# Altium integrated library Linear Technology Charge_Pump.IntLib: 599 symbols (part 18 of 29)
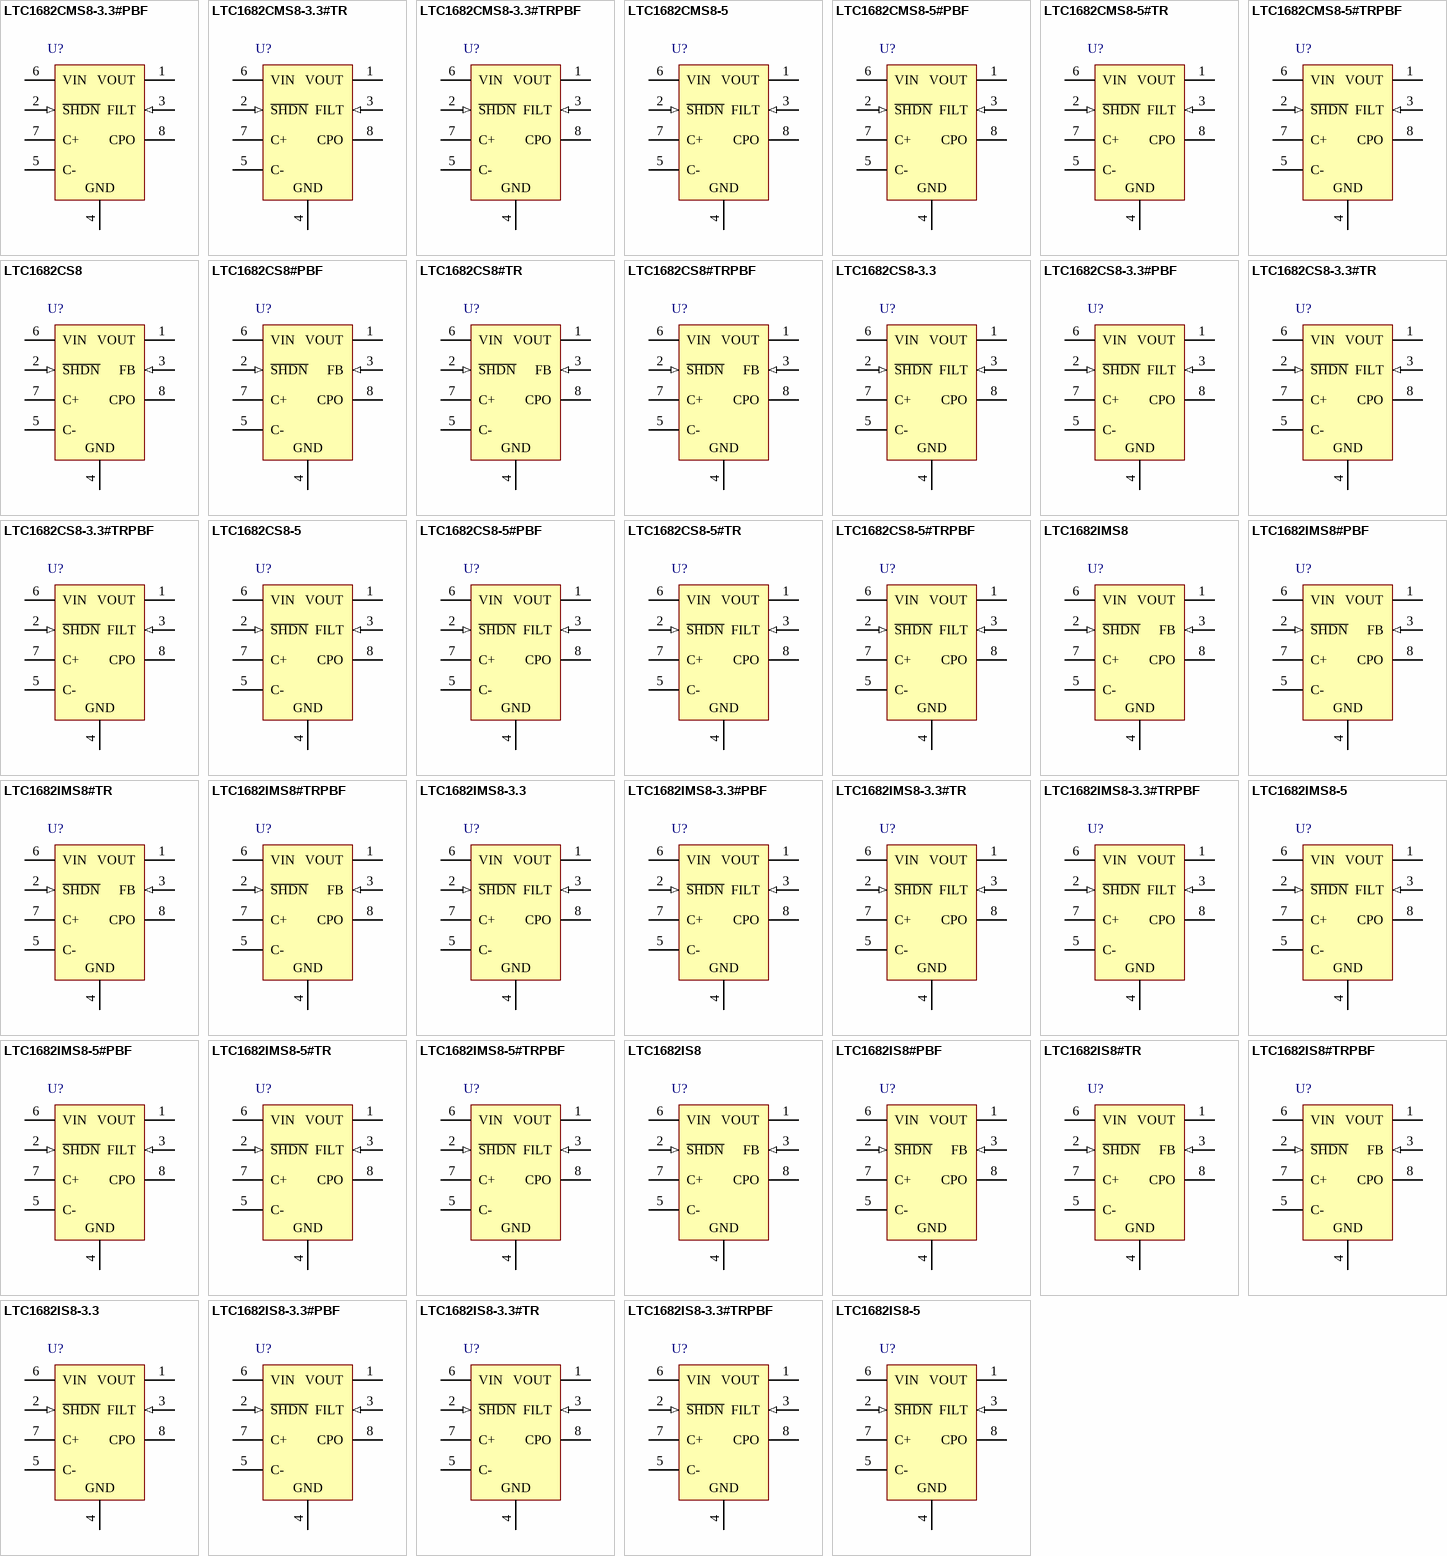
[diagram p33: symbols LTC1682CMS8-3.3#PBF to LTC1682IS8-5]

## LTC1682CS8#PBF
designator U?
Doubler Charge Pump with Low Noise Linear Regulator, 1.8 to 4.4 V Vin, Adjustable Vout, 8-pin SOIC (S8-8), 0 to 70 degC, Pb-Free; Manufacturer: Linear Technology; PartNumber: LTC1682CS8#PBF; Frequency(kHz): 550; Ishutdown(uA): 1; Isupply(mA): 0.15; Max Iout(mA): 50; Vin Max(V): 4.4; Vin Min(V): 1.8; Voutput: Adj; PackageVersion: Rev. G, 03/2012; PackageReference: S8-8; PackageDescription: 8-Pin Plastic Small Outline (Narrow .150 Inch), Body 4.9 x 3.9 mm, Pitch 1.27 mm; Supplier 1: Digi-Key; Supplier Part Number 1: LTC1682CS8#PBF-ND; Supplier 2: Farnell; Supplier Part Number 2: 1273902; RoHS: TRUE; Mounting Technology: Surface Mount; ComponentLink1Description: Manufacturer URL; ComponentLink1URL: http://www.linear.com/; ComponentLink2Description: Datasheet; ComponentLink2URL: http://cds.linear.com/docs/en/datasheet/168235fs.pdf; ComponentLink3Description: Package Specification; ComponentLink3URL: http://cds.linear.com/docs/en/packaging/05081610_G_SO8.pdf
footprint LT-S8-8_N (SOIC, 8-Leads, Body 5x4mm, Pitch 1.27mm, IPC Medium Density)
footprint LT-S8-8_L (SOIC, 8-Leads, Body 5x4mm, Pitch 1.27mm, IPC High Density)
footprint LT-S8-8_M (SOIC, 8-Leads, Body 5x4mm, Pitch 1.27mm, IPC Low Density)
pins: 1 VOUT (power) "Low Noise Regulated Output Voltage. VOUT should be bypassed with a >=2uF low ESR capacitor as close to the pin as possible for best performance. The VOUT range is 2.5V to 5.5V.", 2 ~{SHDN} (in) "Shutdown Input. A logic low on the S\H\D\N\ pin puts the part in shutdown mode. A logic high enables the part. To continuously enable the part connect S\H\D\N\ to VIN. When the part is in shutdown, VOUT will be connected to (See Datasheet)", 3 FB (in) "The voltage on this pin is compared to the internal reference voltage (1.235V) by the error amplifier to keep the output in regulation. An external resistor divider is required between VOUT and FB to adjust the output (See Datasheet)", 4 GND (power) "System Ground.", 5 C- "Flying Capacitor Negative Input.", 6 VIN (power) "Input Voltage, 1.8V to 4.4V. VIN should be bypassed with a >=2uF low ESR capacitor as close to the pin as possible for best performance. A minimum capacitance value of 0.1uF is required.", 7 C+ "Flying Capacitor Positive Input.", 8 CPO (power) "Unregulated Charge Pump Output Voltage. Approximately 1.95(VIN) at low loads. Bypass with a >=2uF low ESR capacitor. If a minimum VOUT enable time is required, the CPO capacitor should be 2xthe VOUT capacitor."

## LTC1682CS8#TR
designator U?
Doubler Charge Pump with Low Noise Linear Regulator, 1.8 to 4.4 V Vin, Adjustable Vout, 8-pin SOIC (S8-8), 0 to 70 degC, Tape and Reel; Manufacturer: Linear Technology; PartNumber: LTC1682CS8#TR; Frequency(kHz): 550; Ishutdown(uA): 1; Isupply(mA): 0.15; Max Iout(mA): 50; Vin Max(V): 4.4; Vin Min(V): 1.8; Voutput: Adj; PackageVersion: Rev. G, 03/2012; PackageReference: S8-8; PackageDescription: 8-Pin Plastic Small Outline (Narrow .150 Inch), Body 4.9 x 3.9 mm, Pitch 1.27 mm; Supplier 1: Digi-Key; Supplier Part Number 1: LTC1682CS8#TR-ND; Packing: Tape and Reel; RoHS: FALSE; Mounting Technology: Surface Mount; ComponentLink1Description: Manufacturer URL; ComponentLink1URL: http://www.linear.com/; ComponentLink2Description: Datasheet; ComponentLink2URL: http://cds.linear.com/docs/en/datasheet/168235fs.pdf; ComponentLink3Description: Package Specification; ComponentLink3URL: http://cds.linear.com/docs/en/packaging/05081610_G_SO8.pdf
footprint LT-S8-8_N (SOIC, 8-Leads, Body 5x4mm, Pitch 1.27mm, IPC Medium Density)
footprint LT-S8-8_L (SOIC, 8-Leads, Body 5x4mm, Pitch 1.27mm, IPC High Density)
footprint LT-S8-8_M (SOIC, 8-Leads, Body 5x4mm, Pitch 1.27mm, IPC Low Density)
pins: 1 VOUT (power) "Low Noise Regulated Output Voltage. VOUT should be bypassed with a >=2uF low ESR capacitor as close to the pin as possible for best performance. The VOUT range is 2.5V to 5.5V.", 2 ~{SHDN} (in) "Shutdown Input. A logic low on the S\H\D\N\ pin puts the part in shutdown mode. A logic high enables the part. To continuously enable the part connect S\H\D\N\ to VIN. When the part is in shutdown, VOUT will be connected to (See Datasheet)", 3 FB (in) "The voltage on this pin is compared to the internal reference voltage (1.235V) by the error amplifier to keep the output in regulation. An external resistor divider is required between VOUT and FB to adjust the output (See Datasheet)", 4 GND (power) "System Ground.", 5 C- "Flying Capacitor Negative Input.", 6 VIN (power) "Input Voltage, 1.8V to 4.4V. VIN should be bypassed with a >=2uF low ESR capacitor as close to the pin as possible for best performance. A minimum capacitance value of 0.1uF is required.", 7 C+ "Flying Capacitor Positive Input.", 8 CPO (power) "Unregulated Charge Pump Output Voltage. Approximately 1.95(VIN) at low loads. Bypass with a >=2uF low ESR capacitor. If a minimum VOUT enable time is required, the CPO capacitor should be 2xthe VOUT capacitor."

## LTC1682CS8#TRPBF
designator U?
Doubler Charge Pump with Low Noise Linear Regulator, 1.8 to 4.4 V Vin, Adjustable Vout, 8-pin SOIC (S8-8), 0 to 70 degC, Pb-Free, Tape and Reel; Manufacturer: Linear Technology; PartNumber: LTC1682CS8#TRPBF; Frequency(kHz): 550; Ishutdown(uA): 1; Isupply(mA): 0.15; Max Iout(mA): 50; Vin Max(V): 4.4; Vin Min(V): 1.8; Voutput: Adj; PackageVersion: Rev. G, 03/2012; PackageReference: S8-8; PackageDescription: 8-Pin Plastic Small Outline (Narrow .150 Inch), Body 4.9 x 3.9 mm, Pitch 1.27 mm; Supplier 1: Digi-Key; Supplier Part Number 1: LTC1682CS8#TRPBF-ND; Packing: Tape and Reel; RoHS: TRUE; Mounting Technology: Surface Mount; ComponentLink1Description: Manufacturer URL; ComponentLink1URL: http://www.linear.com/; ComponentLink2Description: Datasheet; ComponentLink2URL: http://cds.linear.com/docs/en/datasheet/168235fs.pdf; ComponentLink3Description: Package Specification; ComponentLink3URL: http://cds.linear.com/docs/en/packaging/05081610_G_SO8.pdf
footprint LT-S8-8_N (SOIC, 8-Leads, Body 5x4mm, Pitch 1.27mm, IPC Medium Density)
footprint LT-S8-8_L (SOIC, 8-Leads, Body 5x4mm, Pitch 1.27mm, IPC High Density)
footprint LT-S8-8_M (SOIC, 8-Leads, Body 5x4mm, Pitch 1.27mm, IPC Low Density)
pins: 1 VOUT (power) "Low Noise Regulated Output Voltage. VOUT should be bypassed with a >=2uF low ESR capacitor as close to the pin as possible for best performance. The VOUT range is 2.5V to 5.5V.", 2 ~{SHDN} (in) "Shutdown Input. A logic low on the S\H\D\N\ pin puts the part in shutdown mode. A logic high enables the part. To continuously enable the part connect S\H\D\N\ to VIN. When the part is in shutdown, VOUT will be connected to (See Datasheet)", 3 FB (in) "The voltage on this pin is compared to the internal reference voltage (1.235V) by the error amplifier to keep the output in regulation. An external resistor divider is required between VOUT and FB to adjust the output (See Datasheet)", 4 GND (power) "System Ground.", 5 C- "Flying Capacitor Negative Input.", 6 VIN (power) "Input Voltage, 1.8V to 4.4V. VIN should be bypassed with a >=2uF low ESR capacitor as close to the pin as possible for best performance. A minimum capacitance value of 0.1uF is required.", 7 C+ "Flying Capacitor Positive Input.", 8 CPO (power) "Unregulated Charge Pump Output Voltage. Approximately 1.95(VIN) at low loads. Bypass with a >=2uF low ESR capacitor. If a minimum VOUT enable time is required, the CPO capacitor should be 2xthe VOUT capacitor."

## LTC1682CS8-3.3
designator U?
Doubler Charge Pump with Low Noise Linear Regulator, 2 to 4.4 V Vin, 3.3 V Vout, 8-pin SOIC (S8-8), 0 to 70 degC; Manufacturer: Linear Technology; PartNumber: LTC1682CS8-3.3; Frequency(kHz): 550; Ishutdown(uA): 1; Isupply(mA): 0.15; Max Iout(mA): 50; Vin Max(V): 4.4; Vin Min(V): 2; Voutput: 3.3V; PackageVersion: Rev. G, 03/2012; PackageReference: S8-8; PackageDescription: 8-Pin Plastic Small Outline (Narrow .150 Inch), Body 4.9 x 3.9 mm, Pitch 1.27 mm; Supplier 1: Digi-Key; Supplier Part Number 1: LTC1682CS8-3.3-ND; RoHS: FALSE; Mounting Technology: Surface Mount; ComponentLink1Description: Manufacturer URL; ComponentLink1URL: http://www.linear.com/; ComponentLink2Description: Datasheet; ComponentLink2URL: http://cds.linear.com/docs/en/datasheet/168235fs.pdf; ComponentLink3Description: Package Specification; ComponentLink3URL: http://cds.linear.com/docs/en/packaging/05081610_G_SO8.pdf
footprint LT-S8-8_N (SOIC, 8-Leads, Body 5x4mm, Pitch 1.27mm, IPC Medium Density)
footprint LT-S8-8_L (SOIC, 8-Leads, Body 5x4mm, Pitch 1.27mm, IPC High Density)
footprint LT-S8-8_M (SOIC, 8-Leads, Body 5x4mm, Pitch 1.27mm, IPC Low Density)
pins: 1 VOUT (power) "Low Noise Regulated Output Voltage. VOUT should be bypassed with a >=2uF low ESR capacitor as close to the pin as possible for best performance. The VOUT range is 2.5V to 5.5V.", 2 ~{SHDN} (in) "Shutdown Input. A logic low on the S\H\D\N\ pin puts the part in shutdown mode. A logic high enables the part. To continuously enable the part connect S\H\D\N\ to VIN. When the part is in shutdown, VOUT will be connected to (See Datasheet)", 3 FILT (in) "This pin is used to filter the internal voltage reference. Typically a 1nF capacitor is connected from FILT to ground.", 4 GND (power) "System Ground.", 5 C- "Flying Capacitor Negative Input.", 6 VIN (power) "Input Voltage, 1.8V to 4.4V. VIN should be bypassed with a >=2uF low ESR capacitor as close to the pin as possible for best performance. A minimum capacitance value of 0.1uF is required.", 7 C+ "Flying Capacitor Positive Input.", 8 CPO (power) "Unregulated Charge Pump Output Voltage. Approximately 1.95(VIN) at low loads. Bypass with a >=2uF low ESR capacitor. If a minimum VOUT enable time is required, the CPO capacitor should be 2xthe VOUT capacitor."

## LTC1682CS8-3.3#PBF
designator U?
Doubler Charge Pump with Low Noise Linear Regulator, 2 to 4.4 V Vin, 3.3 V Vout, 8-pin SOIC (S8-8), 0 to 70 degC, Pb-Free; Manufacturer: Linear Technology; PartNumber: LTC1682CS8-3.3#PBF; Frequency(kHz): 550; Ishutdown(uA): 1; Isupply(mA): 0.15; Max Iout(mA): 50; Vin Max(V): 4.4; Vin Min(V): 2; Voutput: 3.3V; PackageVersion: Rev. G, 03/2012; PackageReference: S8-8; PackageDescription: 8-Pin Plastic Small Outline (Narrow .150 Inch), Body 4.9 x 3.9 mm, Pitch 1.27 mm; Supplier 1: Digi-Key; Supplier Part Number 1: LTC1682CS8-3.3#PBF-ND; RoHS: TRUE; Mounting Technology: Surface Mount; ComponentLink1Description: Manufacturer URL; ComponentLink1URL: http://www.linear.com/; ComponentLink2Description: Datasheet; ComponentLink2URL: http://cds.linear.com/docs/en/datasheet/168235fs.pdf; ComponentLink3Description: Package Specification; ComponentLink3URL: http://cds.linear.com/docs/en/packaging/05081610_G_SO8.pdf
footprint LT-S8-8_N (SOIC, 8-Leads, Body 5x4mm, Pitch 1.27mm, IPC Medium Density)
footprint LT-S8-8_L (SOIC, 8-Leads, Body 5x4mm, Pitch 1.27mm, IPC High Density)
footprint LT-S8-8_M (SOIC, 8-Leads, Body 5x4mm, Pitch 1.27mm, IPC Low Density)
pins: 1 VOUT (power) "Low Noise Regulated Output Voltage. VOUT should be bypassed with a >=2uF low ESR capacitor as close to the pin as possible for best performance. The VOUT range is 2.5V to 5.5V.", 2 ~{SHDN} (in) "Shutdown Input. A logic low on the S\H\D\N\ pin puts the part in shutdown mode. A logic high enables the part. To continuously enable the part connect S\H\D\N\ to VIN. When the part is in shutdown, VOUT will be connected to (See Datasheet)", 3 FILT (in) "This pin is used to filter the internal voltage reference. Typically a 1nF capacitor is connected from FILT to ground.", 4 GND (power) "System Ground.", 5 C- "Flying Capacitor Negative Input.", 6 VIN (power) "Input Voltage, 1.8V to 4.4V. VIN should be bypassed with a >=2uF low ESR capacitor as close to the pin as possible for best performance. A minimum capacitance value of 0.1uF is required.", 7 C+ "Flying Capacitor Positive Input.", 8 CPO (power) "Unregulated Charge Pump Output Voltage. Approximately 1.95(VIN) at low loads. Bypass with a >=2uF low ESR capacitor. If a minimum VOUT enable time is required, the CPO capacitor should be 2xthe VOUT capacitor."

## LTC1682CS8-3.3#TR
designator U?
Doubler Charge Pump with Low Noise Linear Regulator, 2 to 4.4 V Vin, 3.3 V Vout, 8-pin SOIC (S8-8), 0 to 70 degC, Tape and Reel; Manufacturer: Linear Technology; PartNumber: LTC1682CS8-3.3#TR; Frequency(kHz): 550; Ishutdown(uA): 1; Isupply(mA): 0.15; Max Iout(mA): 50; Vin Max(V): 4.4; Vin Min(V): 2; Voutput: 3.3V; PackageVersion: Rev. G, 03/2012; PackageReference: S8-8; PackageDescription: 8-Pin Plastic Small Outline (Narrow .150 Inch), Body 4.9 x 3.9 mm, Pitch 1.27 mm; Supplier 1: Digi-Key; Supplier Part Number 1: LTC1682CS8-3.3#TR-ND; Packing: Tape and Reel; RoHS: FALSE; Mounting Technology: Surface Mount; ComponentLink1Description: Manufacturer URL; ComponentLink1URL: http://www.linear.com/; ComponentLink2Description: Datasheet; ComponentLink2URL: http://cds.linear.com/docs/en/datasheet/168235fs.pdf; ComponentLink3Description: Package Specification; ComponentLink3URL: http://cds.linear.com/docs/en/packaging/05081610_G_SO8.pdf
footprint LT-S8-8_N (SOIC, 8-Leads, Body 5x4mm, Pitch 1.27mm, IPC Medium Density)
footprint LT-S8-8_L (SOIC, 8-Leads, Body 5x4mm, Pitch 1.27mm, IPC High Density)
footprint LT-S8-8_M (SOIC, 8-Leads, Body 5x4mm, Pitch 1.27mm, IPC Low Density)
pins: 1 VOUT (power) "Low Noise Regulated Output Voltage. VOUT should be bypassed with a >=2uF low ESR capacitor as close to the pin as possible for best performance. The VOUT range is 2.5V to 5.5V.", 2 ~{SHDN} (in) "Shutdown Input. A logic low on the S\H\D\N\ pin puts the part in shutdown mode. A logic high enables the part. To continuously enable the part connect S\H\D\N\ to VIN. When the part is in shutdown, VOUT will be connected to (See Datasheet)", 3 FILT (in) "This pin is used to filter the internal voltage reference. Typically a 1nF capacitor is connected from FILT to ground.", 4 GND (power) "System Ground.", 5 C- "Flying Capacitor Negative Input.", 6 VIN (power) "Input Voltage, 1.8V to 4.4V. VIN should be bypassed with a >=2uF low ESR capacitor as close to the pin as possible for best performance. A minimum capacitance value of 0.1uF is required.", 7 C+ "Flying Capacitor Positive Input.", 8 CPO (power) "Unregulated Charge Pump Output Voltage. Approximately 1.95(VIN) at low loads. Bypass with a >=2uF low ESR capacitor. If a minimum VOUT enable time is required, the CPO capacitor should be 2xthe VOUT capacitor."

## LTC1682CS8-3.3#TRPBF
designator U?
Doubler Charge Pump with Low Noise Linear Regulator, 2 to 4.4 V Vin, 3.3 V Vout, 8-pin SOIC (S8-8), 0 to 70 degC, Pb-Free, Tape and Reel; Manufacturer: Linear Technology; PartNumber: LTC1682CS8-3.3#TRPBF; Frequency(kHz): 550; Ishutdown(uA): 1; Isupply(mA): 0.15; Max Iout(mA): 50; Vin Max(V): 4.4; Vin Min(V): 2; Voutput: 3.3V; PackageVersion: Rev. G, 03/2012; PackageReference: S8-8; PackageDescription: 8-Pin Plastic Small Outline (Narrow .150 Inch), Body 4.9 x 3.9 mm, Pitch 1.27 mm; Supplier 1: Digi-Key; Supplier Part Number 1: LTC1682CS8-3.3#TRPBF-ND; Packing: Tape and Reel; RoHS: TRUE; Mounting Technology: Surface Mount; ComponentLink1Description: Manufacturer URL; ComponentLink1URL: http://www.linear.com/; ComponentLink2Description: Datasheet; ComponentLink2URL: http://cds.linear.com/docs/en/datasheet/168235fs.pdf; ComponentLink3Description: Package Specification; ComponentLink3URL: http://cds.linear.com/docs/en/packaging/05081610_G_SO8.pdf
footprint LT-S8-8_N (SOIC, 8-Leads, Body 5x4mm, Pitch 1.27mm, IPC Medium Density)
footprint LT-S8-8_L (SOIC, 8-Leads, Body 5x4mm, Pitch 1.27mm, IPC High Density)
footprint LT-S8-8_M (SOIC, 8-Leads, Body 5x4mm, Pitch 1.27mm, IPC Low Density)
pins: 1 VOUT (power) "Low Noise Regulated Output Voltage. VOUT should be bypassed with a >=2uF low ESR capacitor as close to the pin as possible for best performance. The VOUT range is 2.5V to 5.5V.", 2 ~{SHDN} (in) "Shutdown Input. A logic low on the S\H\D\N\ pin puts the part in shutdown mode. A logic high enables the part. To continuously enable the part connect S\H\D\N\ to VIN. When the part is in shutdown, VOUT will be connected to (See Datasheet)", 3 FILT (in) "This pin is used to filter the internal voltage reference. Typically a 1nF capacitor is connected from FILT to ground.", 4 GND (power) "System Ground.", 5 C- "Flying Capacitor Negative Input.", 6 VIN (power) "Input Voltage, 1.8V to 4.4V. VIN should be bypassed with a >=2uF low ESR capacitor as close to the pin as possible for best performance. A minimum capacitance value of 0.1uF is required.", 7 C+ "Flying Capacitor Positive Input.", 8 CPO (power) "Unregulated Charge Pump Output Voltage. Approximately 1.95(VIN) at low loads. Bypass with a >=2uF low ESR capacitor. If a minimum VOUT enable time is required, the CPO capacitor should be 2xthe VOUT capacitor."

## LTC1682CS8-5
designator U?
Doubler Charge Pump with Low Noise Linear Regulator, 2.7 to 4.4 V Vin, 5 V Vout, 8-pin SOIC (S8-8), 0 to 70 degC; Manufacturer: Linear Technology; PartNumber: LTC1682CS8-5; Frequency(kHz): 550; Ishutdown(uA): 1; Isupply(mA): 0.15; Max Iout(mA): 50; Vin Max(V): 4.4; Vin Min(V): 2.7; Voutput: 5V; PackageVersion: Rev. G, 03/2012; PackageReference: S8-8; PackageDescription: 8-Pin Plastic Small Outline (Narrow .150 Inch), Body 4.9 x 3.9 mm, Pitch 1.27 mm; RoHS: FALSE; Mounting Technology: Surface Mount; ComponentLink1Description: Manufacturer URL; ComponentLink1URL: http://www.linear.com/; ComponentLink2Description: Datasheet; ComponentLink2URL: http://cds.linear.com/docs/en/datasheet/168235fs.pdf; ComponentLink3Description: Package Specification; ComponentLink3URL: http://cds.linear.com/docs/en/packaging/05081610_G_SO8.pdf
footprint LT-S8-8_N (SOIC, 8-Leads, Body 5x4mm, Pitch 1.27mm, IPC Medium Density)
footprint LT-S8-8_L (SOIC, 8-Leads, Body 5x4mm, Pitch 1.27mm, IPC High Density)
footprint LT-S8-8_M (SOIC, 8-Leads, Body 5x4mm, Pitch 1.27mm, IPC Low Density)
pins: 1 VOUT (power) "Low Noise Regulated Output Voltage. VOUT should be bypassed with a >=2uF low ESR capacitor as close to the pin as possible for best performance. The VOUT range is 2.5V to 5.5V.", 2 ~{SHDN} (in) "Shutdown Input. A logic low on the S\H\D\N\ pin puts the part in shutdown mode. A logic high enables the part. To continuously enable the part connect S\H\D\N\ to VIN. When the part is in shutdown, VOUT will be connected to (See Datasheet)", 3 FILT (in) "This pin is used to filter the internal voltage reference. Typically a 1nF capacitor is connected from FILT to ground.", 4 GND (power) "System Ground.", 5 C- "Flying Capacitor Negative Input.", 6 VIN (power) "Input Voltage, 1.8V to 4.4V. VIN should be bypassed with a >=2uF low ESR capacitor as close to the pin as possible for best performance. A minimum capacitance value of 0.1uF is required.", 7 C+ "Flying Capacitor Positive Input.", 8 CPO (power) "Unregulated Charge Pump Output Voltage. Approximately 1.95(VIN) at low loads. Bypass with a >=2uF low ESR capacitor. If a minimum VOUT enable time is required, the CPO capacitor should be 2xthe VOUT capacitor."

## LTC1682CS8-5#PBF
designator U?
Doubler Charge Pump with Low Noise Linear Regulator, 2.7 to 4.4 V Vin, 5 V Vout, 8-pin SOIC (S8-8), 0 to 70 degC, Pb-Free; Manufacturer: Linear Technology; PartNumber: LTC1682CS8-5#PBF; Frequency(kHz): 550; Ishutdown(uA): 1; Isupply(mA): 0.15; Max Iout(mA): 50; Vin Max(V): 4.4; Vin Min(V): 2.7; Voutput: 5V; PackageVersion: Rev. G, 03/2012; PackageReference: S8-8; PackageDescription: 8-Pin Plastic Small Outline (Narrow .150 Inch), Body 4.9 x 3.9 mm, Pitch 1.27 mm; Supplier 1: Digi-Key; Supplier Part Number 1: LTC1682CS8-5#PBF-ND; Supplier 2: Farnell; Supplier Part Number 2: 1273903; Supplier 3: Newark; Supplier Part Number 3: 56M3144; RoHS: TRUE; Mounting Technology: Surface Mount; ComponentLink1Description: Manufacturer URL; ComponentLink1URL: http://www.linear.com/; ComponentLink2Description: Datasheet; ComponentLink2URL: http://cds.linear.com/docs/en/datasheet/168235fs.pdf; ComponentLink3Description: Package Specification; ComponentLink3URL: http://cds.linear.com/docs/en/packaging/05081610_G_SO8.pdf
footprint LT-S8-8_N (SOIC, 8-Leads, Body 5x4mm, Pitch 1.27mm, IPC Medium Density)
footprint LT-S8-8_L (SOIC, 8-Leads, Body 5x4mm, Pitch 1.27mm, IPC High Density)
footprint LT-S8-8_M (SOIC, 8-Leads, Body 5x4mm, Pitch 1.27mm, IPC Low Density)
pins: 1 VOUT (power) "Low Noise Regulated Output Voltage. VOUT should be bypassed with a >=2uF low ESR capacitor as close to the pin as possible for best performance. The VOUT range is 2.5V to 5.5V.", 2 ~{SHDN} (in) "Shutdown Input. A logic low on the S\H\D\N\ pin puts the part in shutdown mode. A logic high enables the part. To continuously enable the part connect S\H\D\N\ to VIN. When the part is in shutdown, VOUT will be connected to (See Datasheet)", 3 FILT (in) "This pin is used to filter the internal voltage reference. Typically a 1nF capacitor is connected from FILT to ground.", 4 GND (power) "System Ground.", 5 C- "Flying Capacitor Negative Input.", 6 VIN (power) "Input Voltage, 1.8V to 4.4V. VIN should be bypassed with a >=2uF low ESR capacitor as close to the pin as possible for best performance. A minimum capacitance value of 0.1uF is required.", 7 C+ "Flying Capacitor Positive Input.", 8 CPO (power) "Unregulated Charge Pump Output Voltage. Approximately 1.95(VIN) at low loads. Bypass with a >=2uF low ESR capacitor. If a minimum VOUT enable time is required, the CPO capacitor should be 2xthe VOUT capacitor."

## LTC1682CS8-5#TR
designator U?
Doubler Charge Pump with Low Noise Linear Regulator, 2.7 to 4.4 V Vin, 5 V Vout, 8-pin SOIC (S8-8), 0 to 70 degC, Tape and Reel; Manufacturer: Linear Technology; PartNumber: LTC1682CS8-5#TR; Frequency(kHz): 550; Ishutdown(uA): 1; Isupply(mA): 0.15; Max Iout(mA): 50; Vin Max(V): 4.4; Vin Min(V): 2.7; Voutput: 5V; PackageVersion: Rev. G, 03/2012; PackageReference: S8-8; PackageDescription: 8-Pin Plastic Small Outline (Narrow .150 Inch), Body 4.9 x 3.9 mm, Pitch 1.27 mm; Supplier 1: Digi-Key; Supplier Part Number 1: LTC1682CS8-5#TR-ND; Packing: Tape and Reel; RoHS: FALSE; Mounting Technology: Surface Mount; ComponentLink1Description: Manufacturer URL; ComponentLink1URL: http://www.linear.com/; ComponentLink2Description: Datasheet; ComponentLink2URL: http://cds.linear.com/docs/en/datasheet/168235fs.pdf; ComponentLink3Description: Package Specification; ComponentLink3URL: http://cds.linear.com/docs/en/packaging/05081610_G_SO8.pdf
footprint LT-S8-8_N (SOIC, 8-Leads, Body 5x4mm, Pitch 1.27mm, IPC Medium Density)
footprint LT-S8-8_L (SOIC, 8-Leads, Body 5x4mm, Pitch 1.27mm, IPC High Density)
footprint LT-S8-8_M (SOIC, 8-Leads, Body 5x4mm, Pitch 1.27mm, IPC Low Density)
pins: 1 VOUT (power) "Low Noise Regulated Output Voltage. VOUT should be bypassed with a >=2uF low ESR capacitor as close to the pin as possible for best performance. The VOUT range is 2.5V to 5.5V.", 2 ~{SHDN} (in) "Shutdown Input. A logic low on the S\H\D\N\ pin puts the part in shutdown mode. A logic high enables the part. To continuously enable the part connect S\H\D\N\ to VIN. When the part is in shutdown, VOUT will be connected to (See Datasheet)", 3 FILT (in) "This pin is used to filter the internal voltage reference. Typically a 1nF capacitor is connected from FILT to ground.", 4 GND (power) "System Ground.", 5 C- "Flying Capacitor Negative Input.", 6 VIN (power) "Input Voltage, 1.8V to 4.4V. VIN should be bypassed with a >=2uF low ESR capacitor as close to the pin as possible for best performance. A minimum capacitance value of 0.1uF is required.", 7 C+ "Flying Capacitor Positive Input.", 8 CPO (power) "Unregulated Charge Pump Output Voltage. Approximately 1.95(VIN) at low loads. Bypass with a >=2uF low ESR capacitor. If a minimum VOUT enable time is required, the CPO capacitor should be 2xthe VOUT capacitor."

## LTC1682CS8-5#TRPBF
designator U?
Doubler Charge Pump with Low Noise Linear Regulator, 2.7 to 4.4 V Vin, 5 V Vout, 8-pin SOIC (S8-8), 0 to 70 degC, Pb-Free, Tape and Reel; Manufacturer: Linear Technology; PartNumber: LTC1682CS8-5#TRPBF; Frequency(kHz): 550; Ishutdown(uA): 1; Isupply(mA): 0.15; Max Iout(mA): 50; Vin Max(V): 4.4; Vin Min(V): 2.7; Voutput: 5V; PackageVersion: Rev. G, 03/2012; PackageReference: S8-8; PackageDescription: 8-Pin Plastic Small Outline (Narrow .150 Inch), Body 4.9 x 3.9 mm, Pitch 1.27 mm; Supplier 1: Digi-Key; Supplier Part Number 1: LTC1682CS8-5#TRPBF-ND; Packing: Tape and Reel; RoHS: TRUE; Mounting Technology: Surface Mount; ComponentLink1Description: Manufacturer URL; ComponentLink1URL: http://www.linear.com/; ComponentLink2Description: Datasheet; ComponentLink2URL: http://cds.linear.com/docs/en/datasheet/168235fs.pdf; ComponentLink3Description: Package Specification; ComponentLink3URL: http://cds.linear.com/docs/en/packaging/05081610_G_SO8.pdf
footprint LT-S8-8_N (SOIC, 8-Leads, Body 5x4mm, Pitch 1.27mm, IPC Medium Density)
footprint LT-S8-8_L (SOIC, 8-Leads, Body 5x4mm, Pitch 1.27mm, IPC High Density)
footprint LT-S8-8_M (SOIC, 8-Leads, Body 5x4mm, Pitch 1.27mm, IPC Low Density)
pins: 1 VOUT (power) "Low Noise Regulated Output Voltage. VOUT should be bypassed with a >=2uF low ESR capacitor as close to the pin as possible for best performance. The VOUT range is 2.5V to 5.5V.", 2 ~{SHDN} (in) "Shutdown Input. A logic low on the S\H\D\N\ pin puts the part in shutdown mode. A logic high enables the part. To continuously enable the part connect S\H\D\N\ to VIN. When the part is in shutdown, VOUT will be connected to (See Datasheet)", 3 FILT (in) "This pin is used to filter the internal voltage reference. Typically a 1nF capacitor is connected from FILT to ground.", 4 GND (power) "System Ground.", 5 C- "Flying Capacitor Negative Input.", 6 VIN (power) "Input Voltage, 1.8V to 4.4V. VIN should be bypassed with a >=2uF low ESR capacitor as close to the pin as possible for best performance. A minimum capacitance value of 0.1uF is required.", 7 C+ "Flying Capacitor Positive Input.", 8 CPO (power) "Unregulated Charge Pump Output Voltage. Approximately 1.95(VIN) at low loads. Bypass with a >=2uF low ESR capacitor. If a minimum VOUT enable time is required, the CPO capacitor should be 2xthe VOUT capacitor."

## LTC1682IMS8
designator U?
Doubler Charge Pump with Low Noise Linear Regulator, 1.8 to 4.4 V Vin, Adjustable Vout, 8-pin SOP (MS8-8), -40 to 85 degC; Manufacturer: Linear Technology; PartNumber: LTC1682IMS8; Frequency(kHz): 550; Ishutdown(uA): 1; Isupply(mA): 0.15; Max Iout(mA): 50; Vin Max(V): 4.4; Vin Min(V): 1.8; Voutput: Adj; PackageVersion: Rev. G, 03/2012; PackageReference: MS8-8; PackageDescription: 8-Pin Plastic MSOP, Body 3 x 3 mm, Pitch 0.65 mm; Supplier 1: Digi-Key; Supplier Part Number 1: LTC1682IMS8-ND; RoHS: FALSE; Mounting Technology: Surface Mount; ComponentLink1Description: Manufacturer URL; ComponentLink1URL: http://www.linear.com/; ComponentLink2Description: Datasheet; ComponentLink2URL: http://cds.linear.com/docs/en/datasheet/168235fs.pdf; ComponentLink3Description: Package Specification; ComponentLink3URL: http://cds.linear.com/docs/en/packaging/05081660_G_MS8.pdf
footprint LT-MS8-8_N (SOP, 8-Leads, Body 3.1x3.1mm, Pitch 0.65mm, IPC Medium Density)
footprint LT-MS8-8_L (SOP, 8-Leads, Body 3.1x3.1mm, Pitch 0.65mm, IPC High Density)
footprint LT-MS8-8_M (SOP, 8-Leads, Body 3.1x3.1mm, Pitch 0.65mm, IPC Low Density)
pins: 1 VOUT (power) "Low Noise Regulated Output Voltage. VOUT should be bypassed with a >=2uF low ESR capacitor as close to the pin as possible for best performance. The VOUT range is 2.5V to 5.5V.", 2 ~{SHDN} (in) "Shutdown Input. A logic low on the S\H\D\N\ pin puts the part in shutdown mode. A logic high enables the part. To continuously enable the part connect S\H\D\N\ to VIN. When the part is in shutdown, VOUT will be connected to (See Datasheet)", 3 FB (in) "The voltage on this pin is compared to the internal reference voltage (1.235V) by the error amplifier to keep the output in regulation. An external resistor divider is required between VOUT and FB to adjust the output (See Datasheet)", 4 GND (power) "System Ground.", 5 C- "Flying Capacitor Negative Input.", 6 VIN (power) "Input Voltage, 1.8V to 4.4V. VIN should be bypassed with a >=2uF low ESR capacitor as close to the pin as possible for best performance. A minimum capacitance value of 0.1uF is required.", 7 C+ "Flying Capacitor Positive Input.", 8 CPO (power) "Unregulated Charge Pump Output Voltage. Approximately 1.95(VIN) at low loads. Bypass with a >=2uF low ESR capacitor. If a minimum VOUT enable time is required, the CPO capacitor should be 2xthe VOUT capacitor."

## LTC1682IMS8#PBF
designator U?
Doubler Charge Pump with Low Noise Linear Regulator, 1.8 to 4.4 V Vin, Adjustable Vout, 8-pin SOP (MS8-8), -40 to 85 degC, Pb-Free; Manufacturer: Linear Technology; PartNumber: LTC1682IMS8#PBF; Frequency(kHz): 550; Ishutdown(uA): 1; Isupply(mA): 0.15; Max Iout(mA): 50; Vin Max(V): 4.4; Vin Min(V): 1.8; Voutput: Adj; PackageVersion: Rev. G, 03/2012; PackageReference: MS8-8; PackageDescription: 8-Pin Plastic MSOP, Body 3 x 3 mm, Pitch 0.65 mm; Supplier 1: Digi-Key; Supplier Part Number 1: LTC1682IMS8#PBF-ND; RoHS: TRUE; Mounting Technology: Surface Mount; ComponentLink1Description: Manufacturer URL; ComponentLink1URL: http://www.linear.com/; ComponentLink2Description: Datasheet; ComponentLink2URL: http://cds.linear.com/docs/en/datasheet/168235fs.pdf; ComponentLink3Description: Package Specification; ComponentLink3URL: http://cds.linear.com/docs/en/packaging/05081660_G_MS8.pdf
footprint LT-MS8-8_N (SOP, 8-Leads, Body 3.1x3.1mm, Pitch 0.65mm, IPC Medium Density)
footprint LT-MS8-8_L (SOP, 8-Leads, Body 3.1x3.1mm, Pitch 0.65mm, IPC High Density)
footprint LT-MS8-8_M (SOP, 8-Leads, Body 3.1x3.1mm, Pitch 0.65mm, IPC Low Density)
pins: 1 VOUT (power) "Low Noise Regulated Output Voltage. VOUT should be bypassed with a >=2uF low ESR capacitor as close to the pin as possible for best performance. The VOUT range is 2.5V to 5.5V.", 2 ~{SHDN} (in) "Shutdown Input. A logic low on the S\H\D\N\ pin puts the part in shutdown mode. A logic high enables the part. To continuously enable the part connect S\H\D\N\ to VIN. When the part is in shutdown, VOUT will be connected to (See Datasheet)", 3 FB (in) "The voltage on this pin is compared to the internal reference voltage (1.235V) by the error amplifier to keep the output in regulation. An external resistor divider is required between VOUT and FB to adjust the output (See Datasheet)", 4 GND (power) "System Ground.", 5 C- "Flying Capacitor Negative Input.", 6 VIN (power) "Input Voltage, 1.8V to 4.4V. VIN should be bypassed with a >=2uF low ESR capacitor as close to the pin as possible for best performance. A minimum capacitance value of 0.1uF is required.", 7 C+ "Flying Capacitor Positive Input.", 8 CPO (power) "Unregulated Charge Pump Output Voltage. Approximately 1.95(VIN) at low loads. Bypass with a >=2uF low ESR capacitor. If a minimum VOUT enable time is required, the CPO capacitor should be 2xthe VOUT capacitor."

## LTC1682IMS8#TR
designator U?
Doubler Charge Pump with Low Noise Linear Regulator, 1.8 to 4.4 V Vin, Adjustable Vout, 8-pin SOP (MS8-8), -40 to 85 degC, Tape and Reel; Manufacturer: Linear Technology; PartNumber: LTC1682IMS8#TR; Frequency(kHz): 550; Ishutdown(uA): 1; Isupply(mA): 0.15; Max Iout(mA): 50; Vin Max(V): 4.4; Vin Min(V): 1.8; Voutput: Adj; PackageVersion: Rev. G, 03/2012; PackageReference: MS8-8; PackageDescription: 8-Pin Plastic MSOP, Body 3 x 3 mm, Pitch 0.65 mm; Supplier 1: Digi-Key; Supplier Part Number 1: LTC1682IMS8#TR-ND; Packing: Tape and Reel; RoHS: FALSE; Mounting Technology: Surface Mount; ComponentLink1Description: Manufacturer URL; ComponentLink1URL: http://www.linear.com/; ComponentLink2Description: Datasheet; ComponentLink2URL: http://cds.linear.com/docs/en/datasheet/168235fs.pdf; ComponentLink3Description: Package Specification; ComponentLink3URL: http://cds.linear.com/docs/en/packaging/05081660_G_MS8.pdf
footprint LT-MS8-8_N (SOP, 8-Leads, Body 3.1x3.1mm, Pitch 0.65mm, IPC Medium Density)
footprint LT-MS8-8_L (SOP, 8-Leads, Body 3.1x3.1mm, Pitch 0.65mm, IPC High Density)
footprint LT-MS8-8_M (SOP, 8-Leads, Body 3.1x3.1mm, Pitch 0.65mm, IPC Low Density)
pins: 1 VOUT (power) "Low Noise Regulated Output Voltage. VOUT should be bypassed with a >=2uF low ESR capacitor as close to the pin as possible for best performance. The VOUT range is 2.5V to 5.5V.", 2 ~{SHDN} (in) "Shutdown Input. A logic low on the S\H\D\N\ pin puts the part in shutdown mode. A logic high enables the part. To continuously enable the part connect S\H\D\N\ to VIN. When the part is in shutdown, VOUT will be connected to (See Datasheet)", 3 FB (in) "The voltage on this pin is compared to the internal reference voltage (1.235V) by the error amplifier to keep the output in regulation. An external resistor divider is required between VOUT and FB to adjust the output (See Datasheet)", 4 GND (power) "System Ground.", 5 C- "Flying Capacitor Negative Input.", 6 VIN (power) "Input Voltage, 1.8V to 4.4V. VIN should be bypassed with a >=2uF low ESR capacitor as close to the pin as possible for best performance. A minimum capacitance value of 0.1uF is required.", 7 C+ "Flying Capacitor Positive Input.", 8 CPO (power) "Unregulated Charge Pump Output Voltage. Approximately 1.95(VIN) at low loads. Bypass with a >=2uF low ESR capacitor. If a minimum VOUT enable time is required, the CPO capacitor should be 2xthe VOUT capacitor."

## LTC1682IMS8#TRPBF
designator U?
Doubler Charge Pump with Low Noise Linear Regulator, 1.8 to 4.4 V Vin, Adjustable Vout, 8-pin SOP (MS8-8), -40 to 85 degC, Pb-Free, Tape and Reel; Manufacturer: Linear Technology; PartNumber: LTC1682IMS8#TRPBF; Frequency(kHz): 550; Ishutdown(uA): 1; Isupply(mA): 0.15; Max Iout(mA): 50; Vin Max(V): 4.4; Vin Min(V): 1.8; Voutput: Adj; PackageVersion: Rev. G, 03/2012; PackageReference: MS8-8; PackageDescription: 8-Pin Plastic MSOP, Body 3 x 3 mm, Pitch 0.65 mm; Supplier 1: Digi-Key; Supplier Part Number 1: LTC1682IMS8#TRPBF-ND; Packing: Tape and Reel; RoHS: TRUE; Mounting Technology: Surface Mount; ComponentLink1Description: Manufacturer URL; ComponentLink1URL: http://www.linear.com/; ComponentLink2Description: Datasheet; ComponentLink2URL: http://cds.linear.com/docs/en/datasheet/168235fs.pdf; ComponentLink3Description: Package Specification; ComponentLink3URL: http://cds.linear.com/docs/en/packaging/05081660_G_MS8.pdf
footprint LT-MS8-8_N (SOP, 8-Leads, Body 3.1x3.1mm, Pitch 0.65mm, IPC Medium Density)
footprint LT-MS8-8_L (SOP, 8-Leads, Body 3.1x3.1mm, Pitch 0.65mm, IPC High Density)
footprint LT-MS8-8_M (SOP, 8-Leads, Body 3.1x3.1mm, Pitch 0.65mm, IPC Low Density)
pins: 1 VOUT (power) "Low Noise Regulated Output Voltage. VOUT should be bypassed with a >=2uF low ESR capacitor as close to the pin as possible for best performance. The VOUT range is 2.5V to 5.5V.", 2 ~{SHDN} (in) "Shutdown Input. A logic low on the S\H\D\N\ pin puts the part in shutdown mode. A logic high enables the part. To continuously enable the part connect S\H\D\N\ to VIN. When the part is in shutdown, VOUT will be connected to (See Datasheet)", 3 FB (in) "The voltage on this pin is compared to the internal reference voltage (1.235V) by the error amplifier to keep the output in regulation. An external resistor divider is required between VOUT and FB to adjust the output (See Datasheet)", 4 GND (power) "System Ground.", 5 C- "Flying Capacitor Negative Input.", 6 VIN (power) "Input Voltage, 1.8V to 4.4V. VIN should be bypassed with a >=2uF low ESR capacitor as close to the pin as possible for best performance. A minimum capacitance value of 0.1uF is required.", 7 C+ "Flying Capacitor Positive Input.", 8 CPO (power) "Unregulated Charge Pump Output Voltage. Approximately 1.95(VIN) at low loads. Bypass with a >=2uF low ESR capacitor. If a minimum VOUT enable time is required, the CPO capacitor should be 2xthe VOUT capacitor."

## LTC1682IMS8-3.3
designator U?
Doubler Charge Pump with Low Noise Linear Regulator, 2 to 4.4 V Vin, 3.3 V Vout, 8-pin SOP (MS8-8), -40 to 85 degC; Manufacturer: Linear Technology; PartNumber: LTC1682IMS8-3.3; Frequency(kHz): 550; Ishutdown(uA): 1; Isupply(mA): 0.15; Max Iout(mA): 50; Vin Max(V): 4.4; Vin Min(V): 2; Voutput: 3.3V; PackageVersion: Rev. G, 03/2012; PackageReference: MS8-8; PackageDescription: 8-Pin Plastic MSOP, Body 3 x 3 mm, Pitch 0.65 mm; Supplier 1: Digi-Key; Supplier Part Number 1: LTC1682IMS8-3.3-ND; RoHS: FALSE; Mounting Technology: Surface Mount; ComponentLink1Description: Manufacturer URL; ComponentLink1URL: http://www.linear.com/; ComponentLink2Description: Datasheet; ComponentLink2URL: http://cds.linear.com/docs/en/datasheet/168235fs.pdf; ComponentLink3Description: Package Specification; ComponentLink3URL: http://cds.linear.com/docs/en/packaging/05081660_G_MS8.pdf
footprint LT-MS8-8_N (SOP, 8-Leads, Body 3.1x3.1mm, Pitch 0.65mm, IPC Medium Density)
footprint LT-MS8-8_L (SOP, 8-Leads, Body 3.1x3.1mm, Pitch 0.65mm, IPC High Density)
footprint LT-MS8-8_M (SOP, 8-Leads, Body 3.1x3.1mm, Pitch 0.65mm, IPC Low Density)
pins: 1 VOUT (power) "Low Noise Regulated Output Voltage. VOUT should be bypassed with a >=2uF low ESR capacitor as close to the pin as possible for best performance. The VOUT range is 2.5V to 5.5V.", 2 ~{SHDN} (in) "Shutdown Input. A logic low on the S\H\D\N\ pin puts the part in shutdown mode. A logic high enables the part. To continuously enable the part connect S\H\D\N\ to VIN. When the part is in shutdown, VOUT will be connected to (See Datasheet)", 3 FILT (in) "This pin is used to filter the internal voltage reference. Typically a 1nF capacitor is connected from FILT to ground.", 4 GND (power) "System Ground.", 5 C- "Flying Capacitor Negative Input.", 6 VIN (power) "Input Voltage, 1.8V to 4.4V. VIN should be bypassed with a >=2uF low ESR capacitor as close to the pin as possible for best performance. A minimum capacitance value of 0.1uF is required.", 7 C+ "Flying Capacitor Positive Input.", 8 CPO (power) "Unregulated Charge Pump Output Voltage. Approximately 1.95(VIN) at low loads. Bypass with a >=2uF low ESR capacitor. If a minimum VOUT enable time is required, the CPO capacitor should be 2xthe VOUT capacitor."

## LTC1682IMS8-3.3#PBF
designator U?
Doubler Charge Pump with Low Noise Linear Regulator, 2 to 4.4 V Vin, 3.3 V Vout, 8-pin SOP (MS8-8), -40 to 85 degC, Pb-Free; Manufacturer: Linear Technology; PartNumber: LTC1682IMS8-3.3#PBF; Frequency(kHz): 550; Ishutdown(uA): 1; Isupply(mA): 0.15; Max Iout(mA): 50; Vin Max(V): 4.4; Vin Min(V): 2; Voutput: 3.3V; PackageVersion: Rev. G, 03/2012; PackageReference: MS8-8; PackageDescription: 8-Pin Plastic MSOP, Body 3 x 3 mm, Pitch 0.65 mm; Supplier 1: Digi-Key; Supplier Part Number 1: LTC1682IMS8-3.3#PBF-ND; RoHS: TRUE; Mounting Technology: Surface Mount; ComponentLink1Description: Manufacturer URL; ComponentLink1URL: http://www.linear.com/; ComponentLink2Description: Datasheet; ComponentLink2URL: http://cds.linear.com/docs/en/datasheet/168235fs.pdf; ComponentLink3Description: Package Specification; ComponentLink3URL: http://cds.linear.com/docs/en/packaging/05081660_G_MS8.pdf
footprint LT-MS8-8_N (SOP, 8-Leads, Body 3.1x3.1mm, Pitch 0.65mm, IPC Medium Density)
footprint LT-MS8-8_L (SOP, 8-Leads, Body 3.1x3.1mm, Pitch 0.65mm, IPC High Density)
footprint LT-MS8-8_M (SOP, 8-Leads, Body 3.1x3.1mm, Pitch 0.65mm, IPC Low Density)
pins: 1 VOUT (power) "Low Noise Regulated Output Voltage. VOUT should be bypassed with a >=2uF low ESR capacitor as close to the pin as possible for best performance. The VOUT range is 2.5V to 5.5V.", 2 ~{SHDN} (in) "Shutdown Input. A logic low on the S\H\D\N\ pin puts the part in shutdown mode. A logic high enables the part. To continuously enable the part connect S\H\D\N\ to VIN. When the part is in shutdown, VOUT will be connected to (See Datasheet)", 3 FILT (in) "This pin is used to filter the internal voltage reference. Typically a 1nF capacitor is connected from FILT to ground.", 4 GND (power) "System Ground.", 5 C- "Flying Capacitor Negative Input.", 6 VIN (power) "Input Voltage, 1.8V to 4.4V. VIN should be bypassed with a >=2uF low ESR capacitor as close to the pin as possible for best performance. A minimum capacitance value of 0.1uF is required.", 7 C+ "Flying Capacitor Positive Input.", 8 CPO (power) "Unregulated Charge Pump Output Voltage. Approximately 1.95(VIN) at low loads. Bypass with a >=2uF low ESR capacitor. If a minimum VOUT enable time is required, the CPO capacitor should be 2xthe VOUT capacitor."

## LTC1682IMS8-3.3#TR
designator U?
Doubler Charge Pump with Low Noise Linear Regulator, 2 to 4.4 V Vin, 3.3 V Vout, 8-pin SOP (MS8-8), -40 to 85 degC, Tape and Reel; Manufacturer: Linear Technology; PartNumber: LTC1682IMS8-3.3#TR; Frequency(kHz): 550; Ishutdown(uA): 1; Isupply(mA): 0.15; Max Iout(mA): 50; Vin Max(V): 4.4; Vin Min(V): 2; Voutput: 3.3V; PackageVersion: Rev. G, 03/2012; PackageReference: MS8-8; PackageDescription: 8-Pin Plastic MSOP, Body 3 x 3 mm, Pitch 0.65 mm; Supplier 1: Digi-Key; Supplier Part Number 1: LTC1682IMS8-3.3TR-ND; Packing: Tape and Reel; RoHS: FALSE; Mounting Technology: Surface Mount; ComponentLink1Description: Manufacturer URL; ComponentLink1URL: http://www.linear.com/; ComponentLink2Description: Datasheet; ComponentLink2URL: http://cds.linear.com/docs/en/datasheet/168235fs.pdf; ComponentLink3Description: Package Specification; ComponentLink3URL: http://cds.linear.com/docs/en/packaging/05081660_G_MS8.pdf
footprint LT-MS8-8_N (SOP, 8-Leads, Body 3.1x3.1mm, Pitch 0.65mm, IPC Medium Density)
footprint LT-MS8-8_L (SOP, 8-Leads, Body 3.1x3.1mm, Pitch 0.65mm, IPC High Density)
footprint LT-MS8-8_M (SOP, 8-Leads, Body 3.1x3.1mm, Pitch 0.65mm, IPC Low Density)
pins: 1 VOUT (power) "Low Noise Regulated Output Voltage. VOUT should be bypassed with a >=2uF low ESR capacitor as close to the pin as possible for best performance. The VOUT range is 2.5V to 5.5V.", 2 ~{SHDN} (in) "Shutdown Input. A logic low on the S\H\D\N\ pin puts the part in shutdown mode. A logic high enables the part. To continuously enable the part connect S\H\D\N\ to VIN. When the part is in shutdown, VOUT will be connected to (See Datasheet)", 3 FILT (in) "This pin is used to filter the internal voltage reference. Typically a 1nF capacitor is connected from FILT to ground.", 4 GND (power) "System Ground.", 5 C- "Flying Capacitor Negative Input.", 6 VIN (power) "Input Voltage, 1.8V to 4.4V. VIN should be bypassed with a >=2uF low ESR capacitor as close to the pin as possible for best performance. A minimum capacitance value of 0.1uF is required.", 7 C+ "Flying Capacitor Positive Input.", 8 CPO (power) "Unregulated Charge Pump Output Voltage. Approximately 1.95(VIN) at low loads. Bypass with a >=2uF low ESR capacitor. If a minimum VOUT enable time is required, the CPO capacitor should be 2xthe VOUT capacitor."

## LTC1682IMS8-3.3#TRPBF
designator U?
Doubler Charge Pump with Low Noise Linear Regulator, 2 to 4.4 V Vin, 3.3 V Vout, 8-pin SOP (MS8-8), -40 to 85 degC, Pb-Free, Tape and Reel; Manufacturer: Linear Technology; PartNumber: LTC1682IMS8-3.3#TRPBF; Frequency(kHz): 550; Ishutdown(uA): 1; Isupply(mA): 0.15; Max Iout(mA): 50; Vin Max(V): 4.4; Vin Min(V): 2; Voutput: 3.3V; PackageVersion: Rev. G, 03/2012; PackageReference: MS8-8; PackageDescription: 8-Pin Plastic MSOP, Body 3 x 3 mm, Pitch 0.65 mm; Supplier 1: Digi-Key; Supplier Part Number 1: LTC1682IMS8-3.3#TRPBF-ND; Packing: Tape and Reel; RoHS: TRUE; Mounting Technology: Surface Mount; ComponentLink1Description: Manufacturer URL; ComponentLink1URL: http://www.linear.com/; ComponentLink2Description: Datasheet; ComponentLink2URL: http://cds.linear.com/docs/en/datasheet/168235fs.pdf; ComponentLink3Description: Package Specification; ComponentLink3URL: http://cds.linear.com/docs/en/packaging/05081660_G_MS8.pdf
footprint LT-MS8-8_N (SOP, 8-Leads, Body 3.1x3.1mm, Pitch 0.65mm, IPC Medium Density)
footprint LT-MS8-8_L (SOP, 8-Leads, Body 3.1x3.1mm, Pitch 0.65mm, IPC High Density)
footprint LT-MS8-8_M (SOP, 8-Leads, Body 3.1x3.1mm, Pitch 0.65mm, IPC Low Density)
pins: 1 VOUT (power) "Low Noise Regulated Output Voltage. VOUT should be bypassed with a >=2uF low ESR capacitor as close to the pin as possible for best performance. The VOUT range is 2.5V to 5.5V.", 2 ~{SHDN} (in) "Shutdown Input. A logic low on the S\H\D\N\ pin puts the part in shutdown mode. A logic high enables the part. To continuously enable the part connect S\H\D\N\ to VIN. When the part is in shutdown, VOUT will be connected to (See Datasheet)", 3 FILT (in) "This pin is used to filter the internal voltage reference. Typically a 1nF capacitor is connected from FILT to ground.", 4 GND (power) "System Ground.", 5 C- "Flying Capacitor Negative Input.", 6 VIN (power) "Input Voltage, 1.8V to 4.4V. VIN should be bypassed with a >=2uF low ESR capacitor as close to the pin as possible for best performance. A minimum capacitance value of 0.1uF is required.", 7 C+ "Flying Capacitor Positive Input.", 8 CPO (power) "Unregulated Charge Pump Output Voltage. Approximately 1.95(VIN) at low loads. Bypass with a >=2uF low ESR capacitor. If a minimum VOUT enable time is required, the CPO capacitor should be 2xthe VOUT capacitor."

## LTC1682IMS8-5
designator U?
Doubler Charge Pump with Low Noise Linear Regulator, 2.7 to 4.4 V Vin, 5 V Vout, 8-pin SOP (MS8-8), -40 to 85 degC; Manufacturer: Linear Technology; PartNumber: LTC1682IMS8-5; Frequency(kHz): 550; Ishutdown(uA): 1; Isupply(mA): 0.15; Max Iout(mA): 50; Vin Max(V): 4.4; Vin Min(V): 2.7; Voutput: 5V; PackageVersion: Rev. G, 03/2012; PackageReference: MS8-8; PackageDescription: 8-Pin Plastic MSOP, Body 3 x 3 mm, Pitch 0.65 mm; Supplier 1: Digi-Key; Supplier Part Number 1: LTC1682IMS8-5-ND; Supplier 2: Newark; Supplier Part Number 2: 56M3155; RoHS: FALSE; Mounting Technology: Surface Mount; ComponentLink1Description: Manufacturer URL; ComponentLink1URL: http://www.linear.com/; ComponentLink2Description: Datasheet; ComponentLink2URL: http://cds.linear.com/docs/en/datasheet/168235fs.pdf; ComponentLink3Description: Package Specification; ComponentLink3URL: http://cds.linear.com/docs/en/packaging/05081660_G_MS8.pdf
footprint LT-MS8-8_N (SOP, 8-Leads, Body 3.1x3.1mm, Pitch 0.65mm, IPC Medium Density)
footprint LT-MS8-8_L (SOP, 8-Leads, Body 3.1x3.1mm, Pitch 0.65mm, IPC High Density)
footprint LT-MS8-8_M (SOP, 8-Leads, Body 3.1x3.1mm, Pitch 0.65mm, IPC Low Density)
pins: 1 VOUT (power) "Low Noise Regulated Output Voltage. VOUT should be bypassed with a >=2uF low ESR capacitor as close to the pin as possible for best performance. The VOUT range is 2.5V to 5.5V.", 2 ~{SHDN} (in) "Shutdown Input. A logic low on the S\H\D\N\ pin puts the part in shutdown mode. A logic high enables the part. To continuously enable the part connect S\H\D\N\ to VIN. When the part is in shutdown, VOUT will be connected to (See Datasheet)", 3 FILT (in) "This pin is used to filter the internal voltage reference. Typically a 1nF capacitor is connected from FILT to ground.", 4 GND (power) "System Ground.", 5 C- "Flying Capacitor Negative Input.", 6 VIN (power) "Input Voltage, 1.8V to 4.4V. VIN should be bypassed with a >=2uF low ESR capacitor as close to the pin as possible for best performance. A minimum capacitance value of 0.1uF is required.", 7 C+ "Flying Capacitor Positive Input.", 8 CPO (power) "Unregulated Charge Pump Output Voltage. Approximately 1.95(VIN) at low loads. Bypass with a >=2uF low ESR capacitor. If a minimum VOUT enable time is required, the CPO capacitor should be 2xthe VOUT capacitor."

## LTC1682IMS8-5#PBF
designator U?
Doubler Charge Pump with Low Noise Linear Regulator, 2.7 to 4.4 V Vin, 5 V Vout, 8-pin SOP (MS8-8), -40 to 85 degC, Pb-Free; Manufacturer: Linear Technology; PartNumber: LTC1682IMS8-5#PBF; Frequency(kHz): 550; Ishutdown(uA): 1; Isupply(mA): 0.15; Max Iout(mA): 50; Vin Max(V): 4.4; Vin Min(V): 2.7; Voutput: 5V; PackageVersion: Rev. G, 03/2012; PackageReference: MS8-8; PackageDescription: 8-Pin Plastic MSOP, Body 3 x 3 mm, Pitch 0.65 mm; Supplier 1: Digi-Key; Supplier Part Number 1: LTC1682IMS8-5#PBF-ND; Supplier 2: Newark; Supplier Part Number 2: 56M3156; RoHS: TRUE; Mounting Technology: Surface Mount; ComponentLink1Description: Manufacturer URL; ComponentLink1URL: http://www.linear.com/; ComponentLink2Description: Datasheet; ComponentLink2URL: http://cds.linear.com/docs/en/datasheet/168235fs.pdf; ComponentLink3Description: Package Specification; ComponentLink3URL: http://cds.linear.com/docs/en/packaging/05081660_G_MS8.pdf
footprint LT-MS8-8_N (SOP, 8-Leads, Body 3.1x3.1mm, Pitch 0.65mm, IPC Medium Density)
footprint LT-MS8-8_L (SOP, 8-Leads, Body 3.1x3.1mm, Pitch 0.65mm, IPC High Density)
footprint LT-MS8-8_M (SOP, 8-Leads, Body 3.1x3.1mm, Pitch 0.65mm, IPC Low Density)
pins: 1 VOUT (power) "Low Noise Regulated Output Voltage. VOUT should be bypassed with a >=2uF low ESR capacitor as close to the pin as possible for best performance. The VOUT range is 2.5V to 5.5V.", 2 ~{SHDN} (in) "Shutdown Input. A logic low on the S\H\D\N\ pin puts the part in shutdown mode. A logic high enables the part. To continuously enable the part connect S\H\D\N\ to VIN. When the part is in shutdown, VOUT will be connected to (See Datasheet)", 3 FILT (in) "This pin is used to filter the internal voltage reference. Typically a 1nF capacitor is connected from FILT to ground.", 4 GND (power) "System Ground.", 5 C- "Flying Capacitor Negative Input.", 6 VIN (power) "Input Voltage, 1.8V to 4.4V. VIN should be bypassed with a >=2uF low ESR capacitor as close to the pin as possible for best performance. A minimum capacitance value of 0.1uF is required.", 7 C+ "Flying Capacitor Positive Input.", 8 CPO (power) "Unregulated Charge Pump Output Voltage. Approximately 1.95(VIN) at low loads. Bypass with a >=2uF low ESR capacitor. If a minimum VOUT enable time is required, the CPO capacitor should be 2xthe VOUT capacitor."